# EAGLE library part LDQ-M3604RI (library DC_LOAD_AU)
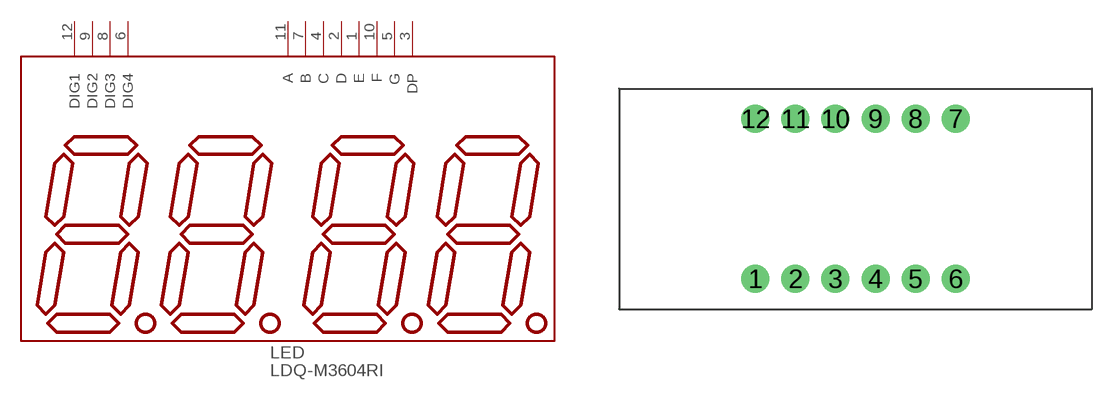
[diagram p2: symbol with the pads of LDQ-M3604RI; footprint LDQ-M3604RI]

Designator prefix LED

## LDQ-M3604RI  [LDQ-M3604RI]
1  E
2  D
3  DP
4  C
5  G
6  DIG4
7  B
8  DIG3
9  DIG2
10  F
11  A
12  DIG1

## Footprint LDQ-M3604RI (pad centres in mm)
drill 0.8 pad 1.778: 1 -6.35,-5.08; 2 -3.81,-5.08; 3 -1.27,-5.08; 4 1.27,-5.08; 5 3.81,-5.08; 6 6.35,-5.08; 7 6.35,5.08; 8 3.81,5.08; 9 1.27,5.08; 10 -1.27,5.08; 11 -3.81,5.08; 12 -6.35,5.08